# EAGLE library part LAN9512-JZX (library LAN-Edison)
IC, USB2 - ENET CNTRL 2-PORT HUB, 64VQFN
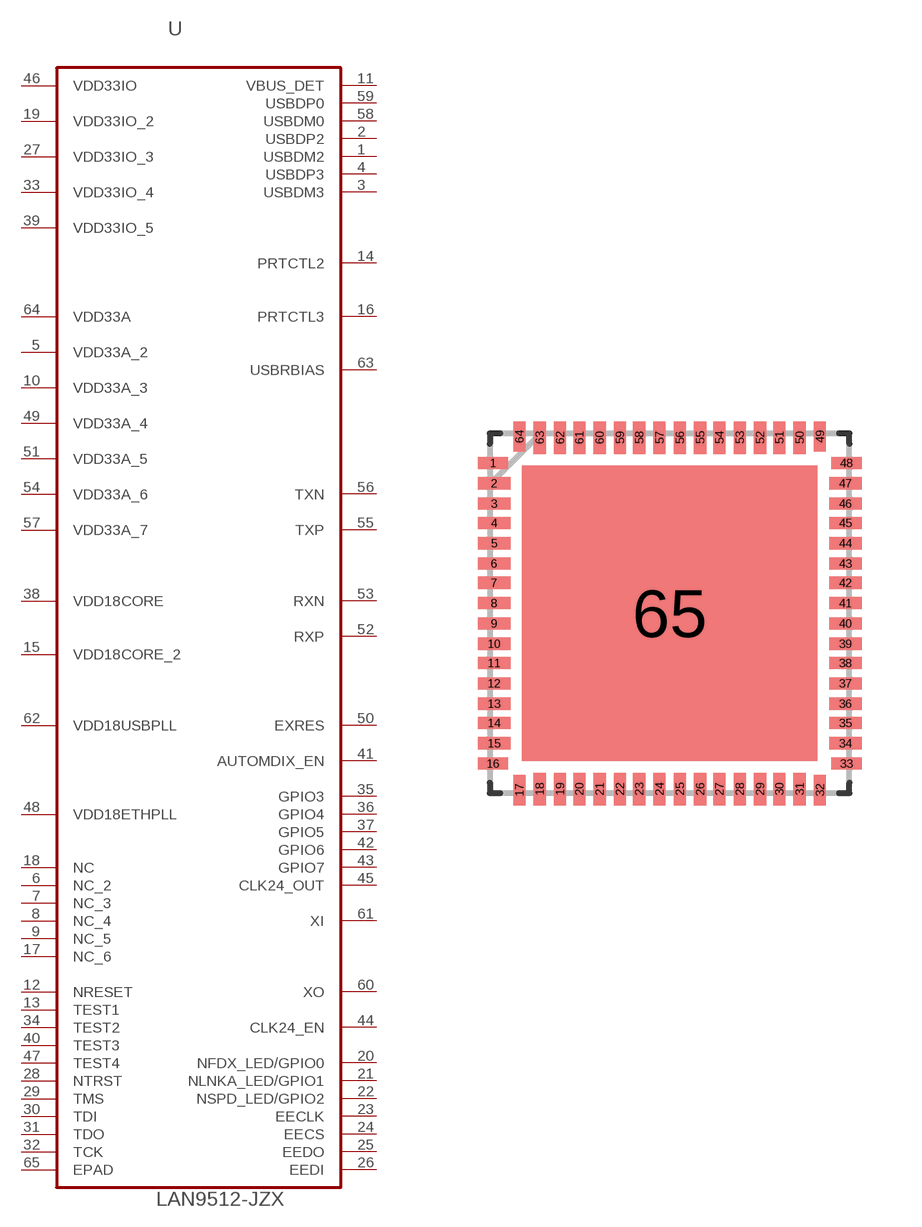
[diagram p8: symbol with the pads of QFN50P900X900X100-65N; footprint QFN50P900X900X100-65N]

Designator prefix U

## LAN9512-JZX (MPN: LAN9512-JZX; OC_FARNELL: 2292586; OC_NEWARK: 66W1988; PACKAGE: 64VQFN; SUPPLIER: Microchip)  [QFN50P900X900X100-65N]
1  USBDM2  pas
2  USBDP2  pas
3  USBDM3  pas
4  USBDP3  pas
5  VDD33A_2  pwr
6  NC_2  nc
7  NC_3  nc
8  NC_4  nc
9  NC_5  nc
10  VDD33A_3  pwr
11  VBUS_DET  pwr
12  NRESET  pas
13  TEST1  pas
14  PRTCTL2  pas
15  VDD18CORE_2  pwr
16  PRTCTL3  pas
17  NC_6  nc
18  NC  nc
19  VDD33IO_2  pwr
20  NFDX_LED/GPIO0
21  NLNKA_LED/GPIO1
22  NSPD_LED/GPIO2
23  EECLK  pas
24  EECS  pas
25  EEDO  pas
26  EEDI  pas
27  VDD33IO_3  pwr
28  NTRST  pas
29  TMS  pas
30  TDI  pas
31  TDO  pas
32  TCK  pas
33  VDD33IO_4  pwr
34  TEST2  pas
35  GPIO3
36  GPIO4
37  GPIO5
38  VDD18CORE  pwr
39  VDD33IO_5  pwr
40  TEST3  pas
41  AUTOMDIX_EN  pas
42  GPIO6
43  GPIO7
44  CLK24_EN  pas
45  CLK24_OUT  pas
46  VDD33IO  pwr
47  TEST4  pas
48  VDD18ETHPLL  pwr
49  VDD33A_4  pwr
50  EXRES  pas
51  VDD33A_5  pwr
52  RXP  pas
53  RXN  pas
54  VDD33A_6  pwr
55  TXP  pas
56  TXN  pas
57  VDD33A_7  pwr
58  USBDM0  pas
59  USBDP0  pas
60  XO  pas
61  XI  pas
62  VDD18USBPLL  pwr
63  USBRBIAS  pas
64  VDD33A  pwr
65  EPAD  pas

## Footprint QFN50P900X900X100-65N (pad centres in mm)
smd 0.762 x 0.305: 1 -4.42,3.759; 16 -4.42,-3.759; 33 4.42,-3.759; 48 4.42,3.759
smd 0.813 x 0.305: 2 -4.394,3.251; 3 -4.394,2.743; 4 -4.394,2.261; 5 -4.394,1.753; 6 -4.394,1.245; 7 -4.394,0.762; 8 -4.394,0.254; 9 -4.394,-0.254; 10 -4.394,-0.762; 11 -4.394,-1.245; 12 -4.394,-1.753; 13 -4.394,-2.261; 14 -4.394,-2.743; 15 -4.394,-3.251; 34 4.394,-3.251; 35 4.394,-2.743; 36 4.394,-2.261; 37 4.394,-1.753; 38 4.394,-1.245; 39 4.394,-0.762; 40 4.394,-0.254; 41 4.394,0.254; 42 4.394,0.762; 43 4.394,1.245; 44 4.394,1.753; 45 4.394,2.261; 46 4.394,2.743; 47 4.394,3.251
smd 0.305 x 0.762: 17 -3.759,-4.42; 32 3.759,-4.42; 49 3.759,4.42; 64 -3.759,4.42
smd 0.305 x 0.813: 18 -3.251,-4.394; 19 -2.743,-4.394; 20 -2.261,-4.394; 21 -1.753,-4.394; 22 -1.245,-4.394; 23 -0.762,-4.394; 24 -0.254,-4.394; 25 0.254,-4.394; 26 0.762,-4.394; 27 1.245,-4.394; 28 1.753,-4.394; 29 2.261,-4.394; 30 2.743,-4.394; 31 3.251,-4.394; 50 3.251,4.394; 51 2.743,4.394; 52 2.261,4.394; 53 1.753,4.394; 54 1.245,4.394; 55 0.762,4.394; 56 0.254,4.394; 57 -0.254,4.394; 58 -0.762,4.394; 59 -1.245,4.394; 60 -1.753,4.394; 61 -2.261,4.394; 62 -2.743,4.394; 63 -3.251,4.394
smd 7.391 x 7.391: 65 0,0